# EAGLE library part ARDUINO_PRO_MINI (library arduinopromini-1)
For creating Arduino Pro Mini shields
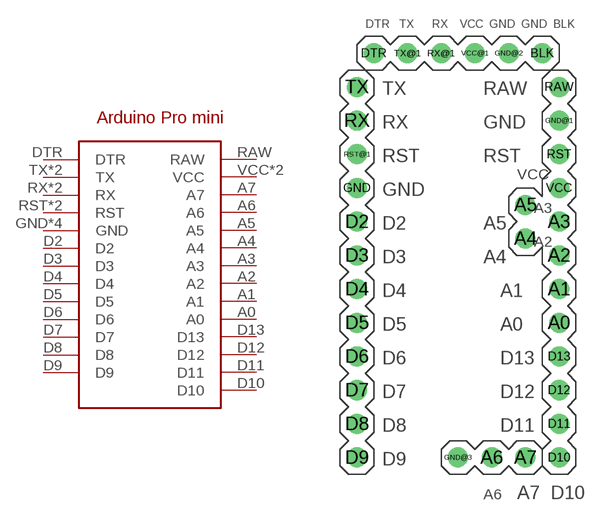
[diagram p0: symbol with the pads of ARDUINO_PRO_MINI; footprint ARDUINO_PRO_MINI]

Designator prefix ARDUINO

## ARDUINO_PRO_MINI  [ARDUINO_PRO_MINI]
A0  A0
A1  A1
A2  A2
A3  A3
A4  A4
A5  A5
A6  A6
A7  A7
D2  D2
D3  D3
D4  D4
D5  D5
D6  D6
D7  D7
D8  D8
D9  D9
D10  D10
D11  D11
D12  D12
D13  D13
DTR  DTR
GND  GND  pwr
GND@1  GND  pwr
GND@2  GND  pwr
GND@3  GND  pwr
RAW  RAW
RST  RST
RST@1  RST
RX  RX
RX@1  RX
TX  TX
TX@1  TX
VCC  VCC  pwr
VCC@1  VCC  pwr

## Footprint ARDUINO_PRO_MINI (pad centres in mm)
Arduino Pro Mini v11 http://www.geeetech.com/Documents/Arduino%20Pro%20Mini%20Schematic.pdf http://www.geeetech.com/Documents/Arduino%20Pro%20Mini%20Eagle%20Files.zip
drill 1: A0 11.43,-8.89; A1 11.43,-6.35; A2 11.43,-3.81; A3 11.43,-1.27; A4 8.89,-2.54; A5 8.89,0; A6 6.35,-19.05; A7 8.89,-19.05; BLK 10.16,11.43; D2 -3.81,-1.27; D3 -3.81,-3.81; D4 -3.81,-6.35; D5 -3.81,-8.89; D6 -3.81,-11.43; D7 -3.81,-13.97; D8 -3.81,-16.51; D9 -3.81,-19.05; D10 11.43,-19.05; D11 11.43,-16.51; D12 11.43,-13.97; D13 11.43,-11.43; DTR -2.54,11.43; GND -3.81,1.27; GND@1 11.43,6.35; GND@2 7.62,11.43; GND@3 3.81,-19.05; RAW 11.43,8.89; RST 11.43,3.81; RST@1 -3.81,3.81; RX -3.81,6.35; RX@1 2.54,11.43; TX -3.81,8.89; TX@1 0,11.43; VCC 11.43,1.27; VCC@1 5.08,11.43